# Altium footprint library REGION_WITH_HOLE.PcbLib: 1 footprints
Each footprint in its own frame and in the unit in brackets; x right, y up, seen from the top. Pads: shape width x height; smd on the part's side, far side on the other; paste and mask are expansions set on the pad; w line width, h text height; cw(c..) or ccw(c..) is an arc to the next point about the centre after c.
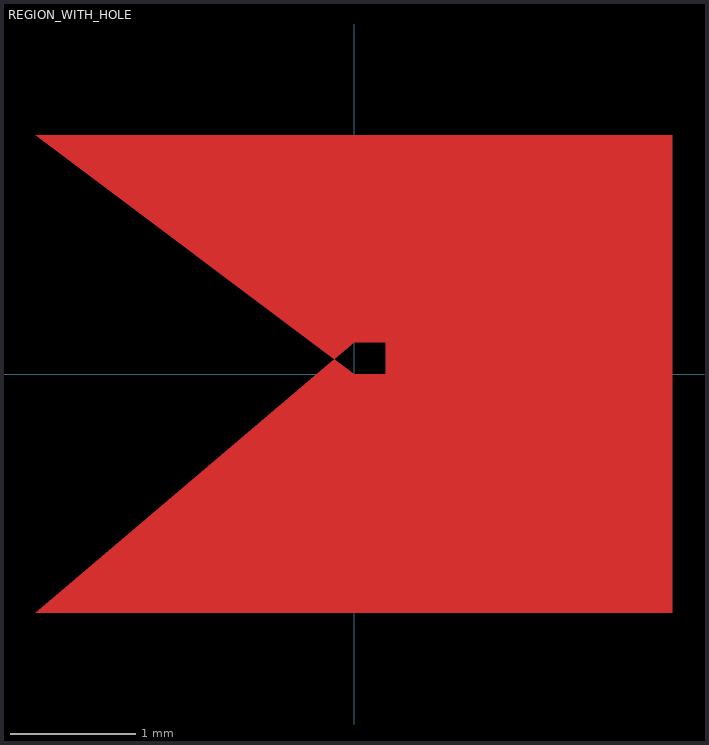
[diagram p0: the footprint, top view; thin cyan lines are the x and y axes]

## REGION_WITH_HOLE [mm] "Region with internal hole/cutout"
Top Layer:
  region: 0,0 0.254,0 0.254,0.254 0,0.254 -2.54,-1.905 2.54,-1.905 2.54,1.905 -2.54,1.905